# Altium footprint library 16SVPE470M.PcbLib: 3 footprints
Each footprint in its own frame and in the unit in brackets; x right, y up, seen from the top. Pads: shape width x height; smd on the part's side, far side on the other; paste and mask are expansions set on the pad; w line width, h text height; cw(c..) or ccw(c..) is an arc to the next point about the centre after c.
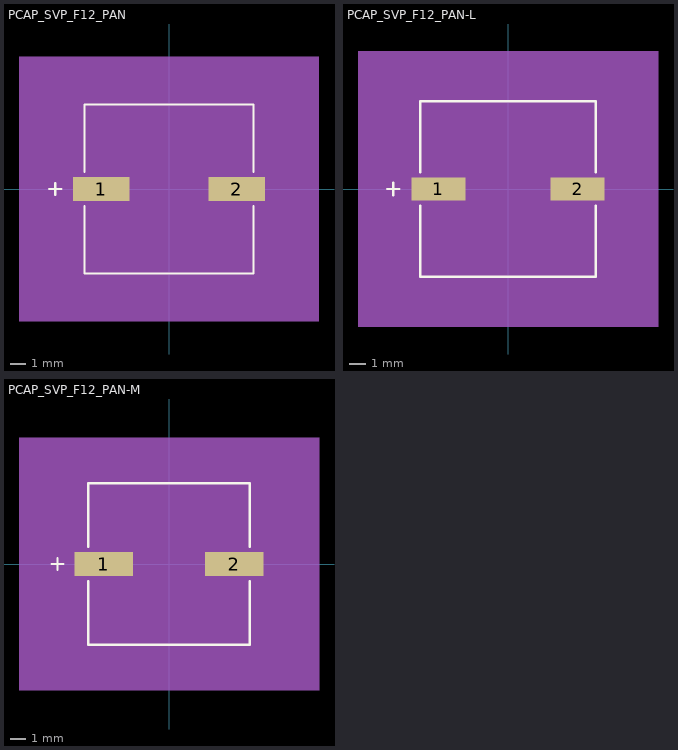
[diagram p0: the footprints below, top view; thin cyan lines are the x and y axes]

## PCAP_SVP_F12_PAN [mil]
pads (2):
  rect 142x59 smd paste+0 mask+0: 1(-169.5,0) 2(169.5,0)
Top Overlay:
  lines w6: -299.5,0 -269.5,0 ; -284.5,-15 -284.5,15 ; -211.5,-42.6 -211.5,-211.5 211.5,-211.5 211.5,-42.6 ; -211.5,42.6 -211.5,211.5 211.5,211.5 211.5,42.6
Mechanical 5:
  region: 375.5,-331.5 -375.5,-331.5 -375.5,331.5 375.5,331.5
Mechanical 13:
  lines w1: -299.5,0 -269.5,0 ; -284.5,-15 -284.5,15 ; -206.5,-103.25 -103.25,-206.5 ; -206.5,103.25 -103.25,206.5 ; -206.5,-206.5 206.5,-206.5 206.5,206.5 -206.5,206.5 -206.5,-206.5
Mechanical 15:
  region: -216.5,-39.5 -250.5,-39.5 -250.5,39.5 -216.5,39.5 -216.5,216.5 216.5,216.5 216.5,39.5 250.5,39.5 250.5,-39.5 216.5,-39.5 216.5,-216.5 -216.5,-216.5
  lines w6: -250.5,-39.5 -250.5,39.5 -216.5,39.5 -216.5,216.5 216.5,216.5 216.5,39.5 250.5,39.5 250.5,-39.5 216.5,-39.5 216.5,-216.5 -216.5,-216.5 -216.5,-39.5 -250.5,-39.5
3D body "PCAP_SVP_F12_PAN.step": height 502.09, standoff 0, extent -220.51,-206.5 220.51,206.5

## PCAP_SVP_F12_PAN-L [mil]
pads (2):
  rect 130x55 smd paste+0 mask+0: 1(-167.5,0) 2(167.5,0)
Top Overlay:
  lines w6: -291.5,0 -261.5,0 ; -276.5,-15 -276.5,15 ; -211.5,-40.6 -211.5,-211.5 211.5,-211.5 211.5,-40.6 ; -211.5,40.6 -211.5,211.5 211.5,211.5 211.5,40.6
Mechanical 5:
  region: 361.5,-331.5 -361.5,-331.5 -361.5,331.5 361.5,331.5
Mechanical 13:
  lines w1: -291.5,0 -261.5,0 ; -276.5,-15 -276.5,15 ; -206.5,-103.25 -103.25,-206.5 ; -206.5,103.25 -103.25,206.5 ; -206.5,-206.5 206.5,-206.5 206.5,206.5 -206.5,206.5 -206.5,-206.5
Mechanical 15:
  region: -210.5,-31.5 -236.5,-31.5 -236.5,31.5 -210.5,31.5 -210.5,210.5 210.5,210.5 210.5,31.5 236.5,31.5 236.5,-31.5 210.5,-31.5 210.5,-210.5 -210.5,-210.5
  lines w6: -236.5,-31.5 -236.5,31.5 -210.5,31.5 -210.5,210.5 210.5,210.5 210.5,31.5 236.5,31.5 236.5,-31.5 210.5,-31.5 210.5,-210.5 -210.5,-210.5 -210.5,-31.5 -236.5,-31.5
3D body "PCAP_SVP_F12_PAN.step": height 502.09, standoff 0, extent -220.51,-206.5 220.51,206.5

## PCAP_SVP_F12_PAN-M [mil]
pads (2):
  rect 154x63 smd paste+0 mask+0: 1(-171.5,0) 2(171.5,0)
Top Overlay:
  lines w6: -307.5,0 -277.5,0 ; -292.5,-15 -292.5,15 ; -211.5,-44.6 -211.5,-211.5 211.5,-211.5 211.5,-44.6 ; -211.5,44.6 -211.5,211.5 211.5,211.5 211.5,44.6
Mechanical 5:
  region: 393.5,-331.5 -393.5,-331.5 -393.5,331.5 393.5,331.5
Mechanical 13:
  lines w1: -307.5,0 -277.5,0 ; -292.5,-15 -292.5,15 ; -206.5,-103.25 -103.25,-206.5 ; -206.5,103.25 -103.25,206.5 ; -206.5,-206.5 206.5,-206.5 206.5,206.5 -206.5,206.5 -206.5,-206.5
Mechanical 15:
  region: -226.5,-51.5 -268.5,-51.5 -268.5,51.5 -226.5,51.5 -226.5,226.5 226.5,226.5 226.5,51.5 268.5,51.5 268.5,-51.5 226.5,-51.5 226.5,-226.5 -226.5,-226.5
  lines w6: -268.5,-51.5 -268.5,51.5 -226.5,51.5 -226.5,226.5 226.5,226.5 226.5,51.5 268.5,51.5 268.5,-51.5 226.5,-51.5 226.5,-226.5 -226.5,-226.5 -226.5,-51.5 -268.5,-51.5
3D body "PCAP_SVP_F12_PAN.step": height 502.09, standoff 0, extent -220.51,-206.5 220.51,206.5